# EAGLE library part SRAM-256X16 (library X893)
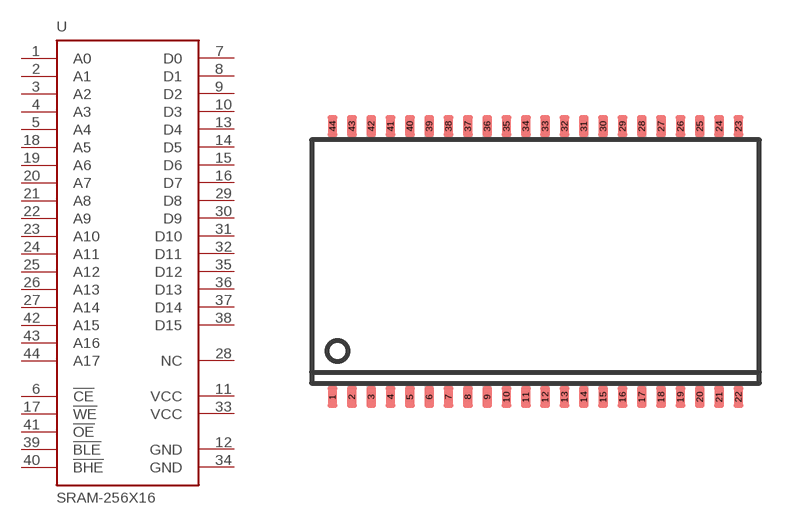
[diagram p115: symbol with the pads of TSOP44-II; footprint TSOP44-II]

Designator prefix U

## SRAM-256X16  [TSOP44-II]
1  A0  in
2  A1  in
3  A2  in
4  A3  in
5  A4  in
6  !CE  in
7  D0
8  D1
9  D2
10  D3
11  VCC  pwr
12  GND  sup
13  D4
14  D5
15  D6
16  D7
17  !WE  in
18  A5  in
19  A6  in
20  A7  in
21  A8  in
22  A9  in
23  A10  in
24  A11  in
25  A12  in
26  A13  in
27  A14  in
28  NC  nc
29  D8
30  D9
31  D10
32  D11
33  VCC  pwr
34  GND  sup
35  D12
36  D13
37  D14
38  D15
39  !BLE  in
40  !BHE  in
41  !OE  in
42  A15  in
43  A16  in
44  A17  in

## Footprint TSOP44-II (pad centres in mm)
44 lead Plastic Thin Small Outline Type II Source: http://us.st.com/stonline/products/literature/ds/7995.pdf
smd 0.4 x 0.9: 1 -8.4,-5.6; 2 -7.6,-5.6; 3 -6.8,-5.6; 4 -6,-5.6; 5 -5.2,-5.6; 6 -4.4,-5.6; 7 -3.6,-5.6; 8 -2.8,-5.6; 9 -2,-5.6; 10 -1.2,-5.6; 11 -0.4,-5.6; 12 0.4,-5.6; 13 1.2,-5.6; 14 2,-5.6; 15 2.8,-5.6; 16 3.6,-5.6; 17 4.4,-5.6; 18 5.2,-5.6; 19 6,-5.6; 20 6.8,-5.6; 21 7.6,-5.6; 22 8.4,-5.6; 23 8.4,5.6; 24 7.6,5.6; 25 6.8,5.6; 26 6,5.6; 27 5.2,5.6; 28 4.4,5.6; 29 3.6,5.6; 30 2.8,5.6; 31 2,5.6; 32 1.2,5.6; 33 0.4,5.6; 34 -0.4,5.6; 35 -1.2,5.6; 36 -2,5.6; 37 -2.8,5.6; 38 -3.6,5.6; 39 -4.4,5.6; 40 -5.2,5.6; 41 -6,5.6; 42 -6.8,5.6; 43 -7.6,5.6; 44 -8.4,5.6